# EAGLE library part DLSC101PUSH (library Miscellaneous)
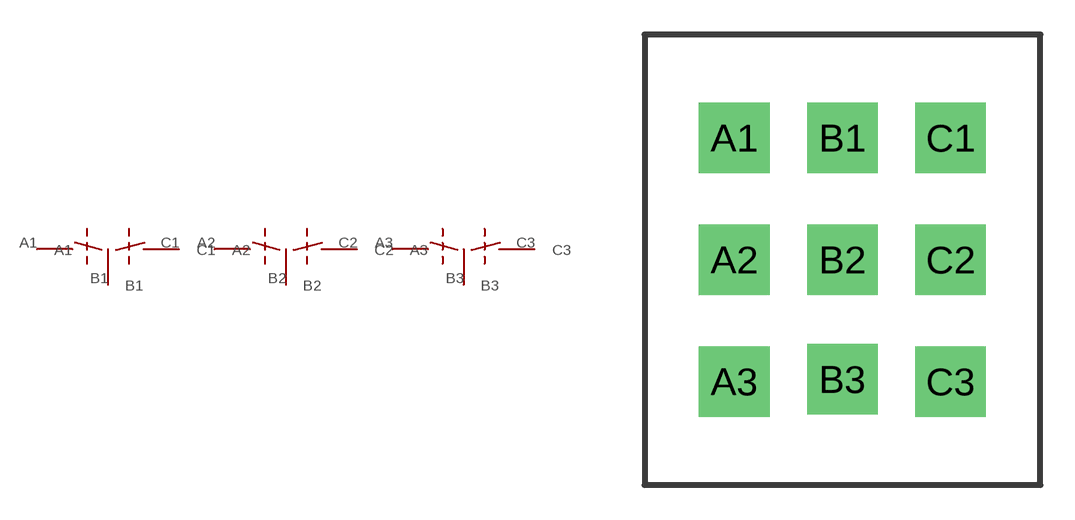
[diagram p0: symbol with the pads of DLSC101PUSH; footprint DLSC101PUSH]

Designator prefix -

## DLSC101PUSH  [DLSC101PUSH]
A1  A1
A2  A2
A3  A3
B1  B1
B2  B2
B3  B3
C1  C1
C2  C2
C3  C3

## Footprint DLSC101PUSH (pad centres in mm)
drill 2.05 square: A1 -4.736,5.194; A2 -4.736,-0.106; A3 -4.736,-5.406; B1 -0.036,5.194; B2 -0.036,-0.106; B3 -0.036,-5.306; C1 4.664,5.194; C2 4.664,-0.106; C3 4.664,-5.406